# Altium integrated library PEC11R-4020F-S0024.IntLib: 1 symbol
Pins are listed as number, name and electrical type; pins without a type are passive.

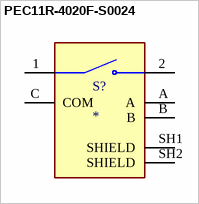
[diagram p0: symbol PEC11R-4020F-S0024]

## PEC11R-4020F-S0024
designator S?
Encoder,Rotary,Zero Detents,20 mm Shaft,Switch | Bourns PEC11R-4020F-S0024; SnapEDA_Link: https://www.snapeda.com/parts/PEC11R-4020F-S0024/Bourns/view-part/?ref=snap; Package: None; Value: *; MF: Bourns; MP: PEC11R-4020F-S0024; Check_prices: https://www.snapeda.com/parts/PEC11R-4020F-S0024/Bourns/view-part/?ref=eda
footprint XDCR_PEC11R-4020F-S0024
pins: 1, 2, A, B, C COM, SH1 SHIELD, SH2 SHIELD